# Altium schematic symbol library GE12I12-P1J.Schlib: 1 symbol
Pins are listed as number, name and electrical type; pins without a type are passive.

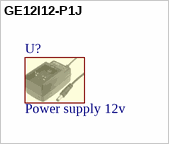
[diagram p0: symbol GE12I12-P1J]

## GE12I12-P1J
designator U?, comment Power supply 12v  (mechanical)